# EAGLE library part MPT0.5 (library house)
Pheonix Contact Micro-Pitch Terminal Block
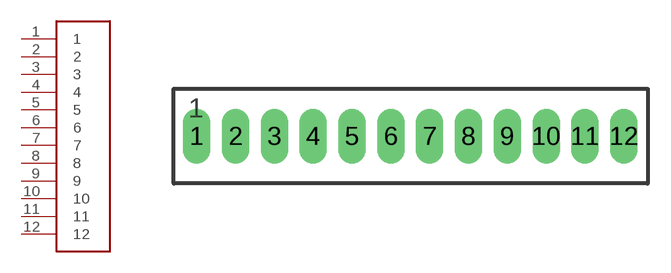
[diagram p2: symbol with the pads of MPT0.5/12-2.54; footprint MPT0.5/12-2.54]

Designator prefix -

## MPT0.5/12-2.54  [MPT0.5/12-2.54]
1  1
2  2
3  3
4  4
5  5
6  6
7  7
8  8
9  9
10  10
11  11
12  12

## Footprint MPT0.5/12-2.54 (pad centres in mm)
drill 1.2 long: 1 -12.7,0; 2 -10.16,0; 3 -7.62,0; 4 -5.08,0; 5 -2.54,0; 6 0,0; 7 2.54,0; 8 5.08,0; 9 7.62,0; 10 10.16,0; 11 12.7,0; 12 15.24,0